# Altium schematic symbol library ERJ-3EKF3401V.SchLib: 1 symbol
Pins are listed as number, name and electrical type; pins without a type are passive.

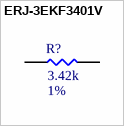
[diagram p0: symbol ERJ-3EKF3401V]

## ERJ-3EKF3401V
designator R?  Resistance: 3.42k  Tolerance: 1%  (hidden comment: ERJ-3EKF3401V)
RES SMD 3.4K OHM 1% 1/10W 0603; MFR: Panasonic Electronic Components; PN: ERJ-3EKF3401V; Footprint: RES0603; Package: 0603; ComponentLink1Description: Datasheet; Power Rating: 1/10W; Supplier 1: Mouser; Supplier Part Number 1: 667-ERJ-3EKF3401V
footprint RES0603 (Generic 0603)
pins: 1, 2